# EAGLE library part AT45DB321 (library memory-atmel)
FLASH MEMORY
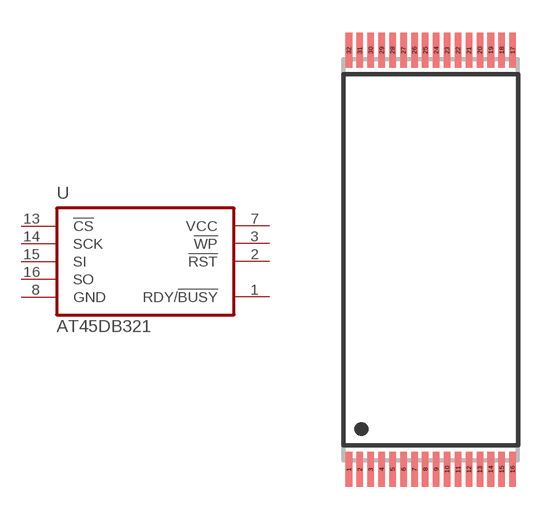
[diagram p4: symbol with the pads of TSOP32-1; footprint TSOP32-1]

Designator prefix U

## AT45DB321-TC  [TSOP32-1]
1  RDY/!BUSY!
2  !RST!
3  !WP!
7  VCC  pwr
8  GND  pwr
13  !CS!
14  SCK
15  SI
16  SO

## Footprint TSOP32-1 (pad centres in mm)
smd 0.3 x 1.6: 1 -3.75,-9.6; 2 -3.25,-9.6; 3 -2.75,-9.6; 4 -2.25,-9.6; 5 -1.75,-9.6; 6 -1.25,-9.6; 7 -0.75,-9.6; 8 -0.25,-9.6; 9 0.25,-9.6; 10 0.75,-9.6; 11 1.25,-9.6; 12 1.75,-9.6; 13 2.25,-9.6; 14 2.75,-9.6; 15 3.25,-9.6; 16 3.75,-9.6; 17 3.75,9.6; 18 3.25,9.6; 19 2.75,9.6; 20 2.25,9.6; 21 1.75,9.6; 22 1.25,9.6; 23 0.75,9.6; 24 0.25,9.6; 25 -0.25,9.6; 26 -0.75,9.6; 27 -1.25,9.6; 28 -1.75,9.6; 29 -2.25,9.6; 30 -2.75,9.6; 31 -3.25,9.6; 32 -3.75,9.6